# EAGLE library part ARDUINO_NANO_33_IOT (library bzd)
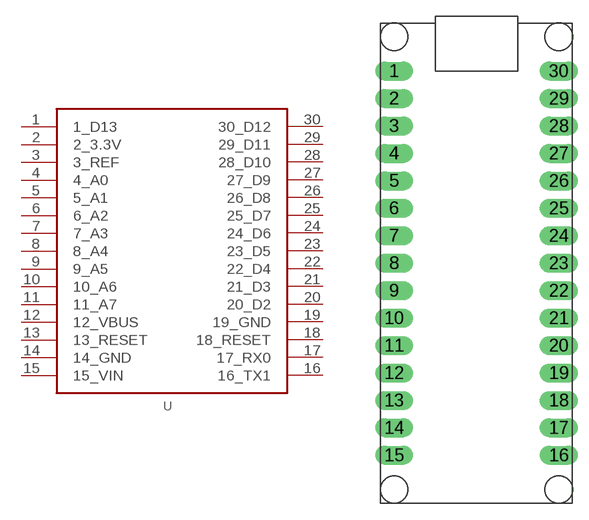
[diagram p0: symbol with the pads of ARDUINO_NANO_33_IOT; footprint ARDUINO_NANO_33_IOT]

Designator prefix -

## ARDUINO_NANO_33_IOT  [ARDUINO_NANO_33_IOT]
1  1_D13
2  2_3.3V
3  3_REF
4  4_A0
5  5_A1
6  6_A2
7  7_A3
8  8_A4
9  9_A5
10  10_A6
11  11_A7
12  12_VBUS
13  13_RESET
14  14_GND
15  15_VIN
16  16_TX1
17  17_RX0
18  18_RESET
19  19_GND
20  20_D2
21  21_D3
22  22_D4
23  23_D5
24  24_D6
25  25_D7
26  26_D8
27  27_D9
28  28_D10
29  29_D11
30  30_D12

## Footprint ARDUINO_NANO_33_IOT (pad centres in mm)
drill 0.6 pad 1.778 long: 1 1.27,-4.445; 2 1.27,-6.985; 3 1.27,-9.525; 4 1.27,-12.065; 5 1.27,-14.605; 6 1.27,-17.145; 7 1.27,-19.685; 8 1.27,-22.225; 9 1.27,-24.765; 10 1.27,-27.305; 11 1.27,-29.845; 12 1.27,-32.385; 13 1.27,-34.925; 14 1.27,-37.465; 15 1.27,-40.005; 16 16.51,-40.005; 17 16.51,-37.465; 18 16.51,-34.925; 19 16.51,-32.385; 20 16.51,-29.845; 21 16.51,-27.305; 22 16.51,-24.765; 23 16.51,-22.225; 24 16.51,-19.685; 25 16.51,-17.145; 26 16.51,-14.605; 27 16.51,-12.065; 28 16.51,-9.525; 29 16.51,-6.985; 30 16.51,-4.445